# Altium schematic symbol library SPI.SchLib: 31 symbols
Pins are listed as number, name and electrical type; pins without a type are passive.

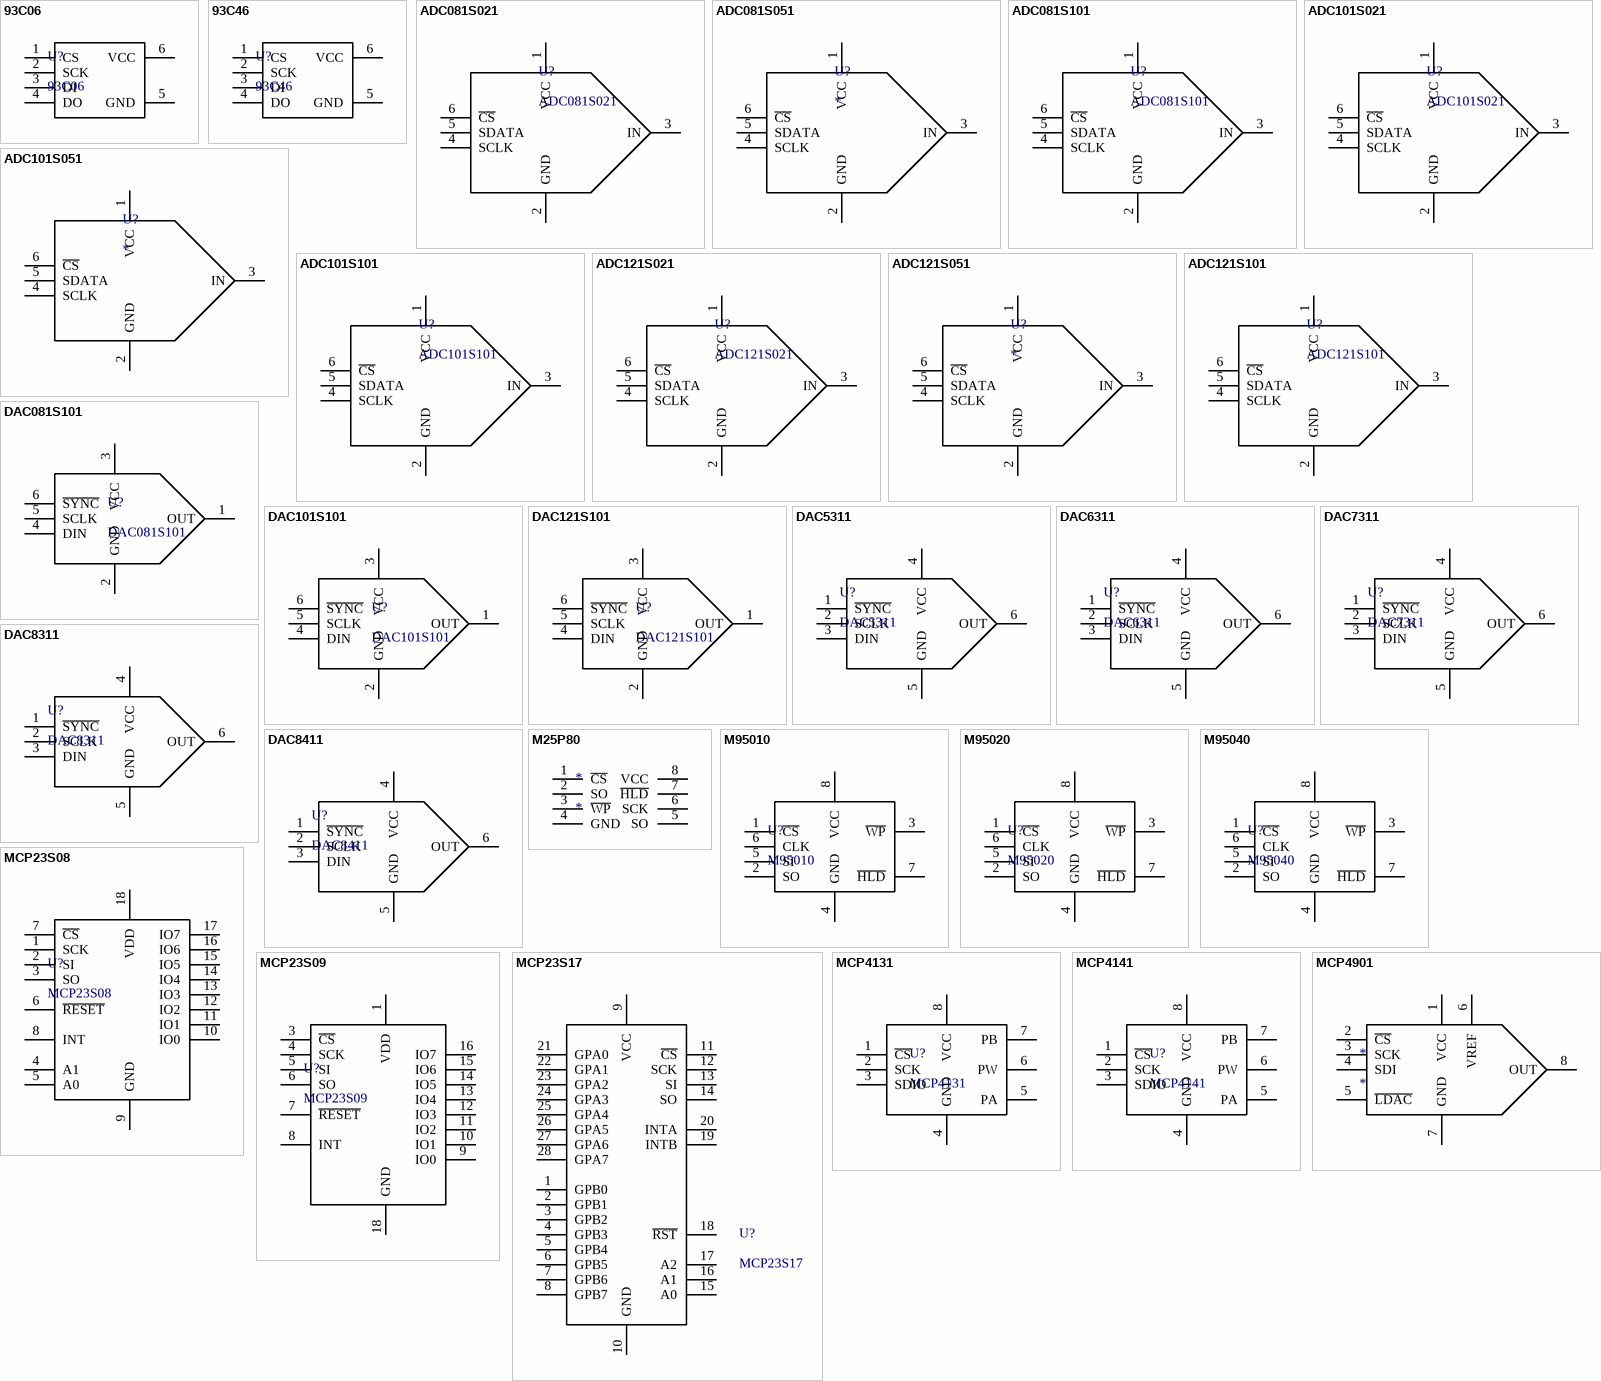
[diagram p0: symbols 93C06 to MCP4901]

## 93C06
designator U?
Supplier 1: Mouser; Supplier Part Number 1: 512-FM93C06M8
footprint SO8
pins: 1 CS, 2 SCK, 3 DI, 4 DO, 5 GND, 6 VCC

## 93C46
designator U?
Supplier 1: Mouser; Supplier Part Number 1: 579-93C46B/SN
footprint SO8
pins: 1 CS, 2 SCK, 3 DI, 4 DO, 5 GND, 6 VCC

## ADC081S021
designator U?
Supplier 1: Digi-Key; Supplier Part Number 1: ADC121S021CIMFTR-ND
footprint SOT23-6
pins: 1 VCC, 2 GND, 3 IN, 4 SCLK, 5 SDATA, 6 ~{CS}

## ADC081S051
designator U?
ADC081S051; Supplier 1: Digi-Key; Supplier Part Number 1: ADC121S051CIMFCT-ND
footprint SOT23-6
pins: 1 VCC, 2 GND, 3 IN, 4 SCLK, 5 SDATA, 6 ~{CS}

## ADC081S101
designator U?
Supplier 1: Digi-Key; Supplier Part Number 1: ADC121S101CIMFTR-ND
footprint SOT23-6
pins: 1 VCC, 2 GND, 3 IN, 4 SCLK, 5 SDATA, 6 ~{CS}

## ADC101S021
designator U?
Supplier 1: Digi-Key; Supplier Part Number 1: ADC101S021CIMFTR-ND
footprint SOT23-6
pins: 1 VCC, 2 GND, 3 IN, 4 SCLK, 5 SDATA, 6 ~{CS}

## ADC101S051
designator U?
ADC101S051; Supplier 1: Digi-Key; Supplier Part Number 1: ADC101S051CIMFTR-ND
footprint SOT23-6
pins: 1 VCC, 2 GND, 3 IN, 4 SCLK, 5 SDATA, 6 ~{CS}

## ADC101S101
designator U?
Supplier 1: Digi-Key; Supplier Part Number 1: ADC101S101CIMFTR-ND
footprint SOT23-6
pins: 1 VCC, 2 GND, 3 IN, 4 SCLK, 5 SDATA, 6 ~{CS}

## ADC121S021
designator U?
Supplier 1: Digi-Key; Supplier Part Number 1: ADC121S021CIMFTR-ND
footprint SOT23-6
pins: 1 VCC, 2 GND, 3 IN, 4 SCLK, 5 SDATA, 6 ~{CS}

## ADC121S051
designator U?
ADC121S051; Supplier 1: Digi-Key; Supplier Part Number 1: ADC121S051CIMFCT-ND
footprint SOT23-6
pins: 1 VCC, 2 GND, 3 IN, 4 SCLK, 5 SDATA, 6 ~{CS}

## ADC121S101
designator U?
Supplier 1: Digi-Key; Supplier Part Number 1: ADC121S101CIMFTR-ND
footprint SOT23-6
pins: 1 VCC, 2 GND, 3 IN, 4 SCLK, 5 SDATA, 6 ~{CS}

## DAC081S101
designator U?
Supplier 1: Digi-Key; Supplier Part Number 1: DAC081S101CIMKTR-ND
footprint SOT23-6
pins: 1 OUT, 2 GND, 3 VCC, 4 DIN, 5 SCLK, 6 ~{SYNC}

## DAC101S101
designator U?
Supplier 1: Digi-Key; Supplier Part Number 1: DAC101S101CIMKTR-ND
footprint SOT23-6
pins: 1 OUT, 2 GND, 3 VCC, 4 DIN, 5 SCLK, 6 ~{SYNC}

## DAC121S101
designator U?
Supplier 1: Digi-Key; Supplier Part Number 1: DAC121S101CIMKTR-ND
footprint SOT23-6
pins: 1 OUT, 2 GND, 3 VCC, 4 DIN, 5 SCLK, 6 ~{SYNC}

## DAC5311
designator U?
Supplier 1: Digi-Key; Supplier Part Number 1: 296-24180-2-ND
footprint SOT23-6
pins: 1 ~{SYNC}, 2 SCLK, 3 DIN, 4 VCC, 5 GND, 6 OUT

## DAC6311
designator U?
Supplier 1: Digi-Key; Supplier Part Number 1: 296-23716-2-ND
footprint SOT23-6
pins: 1 ~{SYNC}, 2 SCLK, 3 DIN, 4 VCC, 5 GND, 6 OUT

## DAC7311
designator U?
Supplier 1: Digi-Key; Supplier Part Number 1: 296-26043-1-ND
footprint SOT23-6
pins: 1 ~{SYNC}, 2 SCLK, 3 DIN, 4 VCC, 5 GND, 6 OUT

## DAC8311
designator U?
Supplier 1: Digi-Key; Supplier Part Number 1: 296-23760-2-ND
footprint SOT23-6
pins: 1 ~{SYNC}, 2 SCLK, 3 DIN, 4 VCC, 5 GND, 6 OUT

## DAC8411
designator U?
Supplier 1: Digi-Key; Supplier Part Number 1: DAC8411IDCKR-ND
footprint SOT23-6
pins: 1 ~{SYNC}, 2 SCLK, 3 DIN, 4 VCC, 5 GND, 6 OUT

## M25P80
designator *
footprint SO8
pins: 1 ~{CS}, 2 SO, 3 ~{WP}, 4 GND, 5 SO, 6 SCK, 7 ~{HLD}, 8 VCC

## M95010
designator U?
Supplier 1: Mouser; Supplier Part Number 1: 511-M95010-RMN6P
footprint SO8
pins: 1 ~{CS}, 2 SO, 3 ~{WP}, 4 GND, 5 SI, 6 CLK, 7 ~{HLD}, 8 VCC

## M95020
designator U?
Supplier 1: Mouser; Supplier Part Number 1: 511-M95020-RDW6TP
footprint SO8
pins: 1 ~{CS}, 2 SO, 3 ~{WP}, 4 GND, 5 SI, 6 CLK, 7 ~{HLD}, 8 VCC

## M95040
designator U?
Supplier 1: Digi-Key; Supplier Part Number 1: 497-8677-2-ND
footprint SO8
pins: 1 ~{CS}, 2 SO, 3 ~{WP}, 4 GND, 5 SI, 6 CLK, 7 ~{HLD}, 8 VCC

## MCP23S08
designator U?
Supplier 1: Digi-Key; Supplier Part Number 1: MCP23S08-E/SO-ND
footprint SO18W
pins: 1 SCK, 2 SI, 3 SO, 4 A1, 5 A0, 6 ~{RESET}, 7 ~{CS}, 8 INT, 9 GND, 10 IO0, 11 IO1, 12 IO2, 13 IO3, 14 IO4, 15 IO5, 16 IO6, 17 IO7, 18 VDD

## MCP23S09
designator U?
Supplier 1: Digi-Key; Supplier Part Number 1: MCP23S09-E/SO-ND
footprint SO18W
pins: 1 VDD, 3 ~{CS}, 4 SCK, 5 SI, 6 SO, 7 ~{RESET}, 8 INT, 9 IO0, 10 IO1, 11 IO2, 12 IO3, 13 IO4, 14 IO5, 15 IO6, 16 IO7, 18 GND

## MCP23S17
designator U?
Supplier 1: Digi-Key; Supplier Part Number 1: MCP23S17-E/SO-ND
footprint SO28W (Footprint not found)
pins: 1 GPB0, 2 GPB1, 3 GPB2, 4 GPB3, 5 GPB4, 6 GPB5, 7 GPB6, 8 GPB7, 9 VCC, 10 GND, 11 ~{CS}, 12 SCK, 13 SI, 14 SO, 15 A0, 16 A1, 17 A2, 18 ~{RST}, 19 INTB, 20 INTA, 21 GPA0, 22 GPA1, 23 GPA2, 24 GPA3, 25 GPA4, 26 GPA5, 27 GPA6, 28 GPA7

## MCP4131
designator U?
Supplier 1: Digi-Key; Supplier Part Number 1: MCP4131-103E/SN-ND
footprint SO8
pins: 1 ~{CS}, 2 SCK, 3 SDIO, 4 GND, 5 PA, 6 PW, 7 PB, 8 VCC

## MCP4141
designator U?
Supplier 1: Digi-Key; Supplier Part Number 1: MCP4141-103E/SN-ND
footprint SO8
pins: 1 ~{CS}, 2 SCK, 3 SDIO, 4 GND, 5 PA, 6 PW, 7 PB, 8 VCC

## MCP4901
designator *
footprint SO8
pins: 1 VCC, 2 ~{CS}, 3 SCK, 4 SDI, 5 ~{LDAC}, 6 VREF, 7 GND, 8 OUT

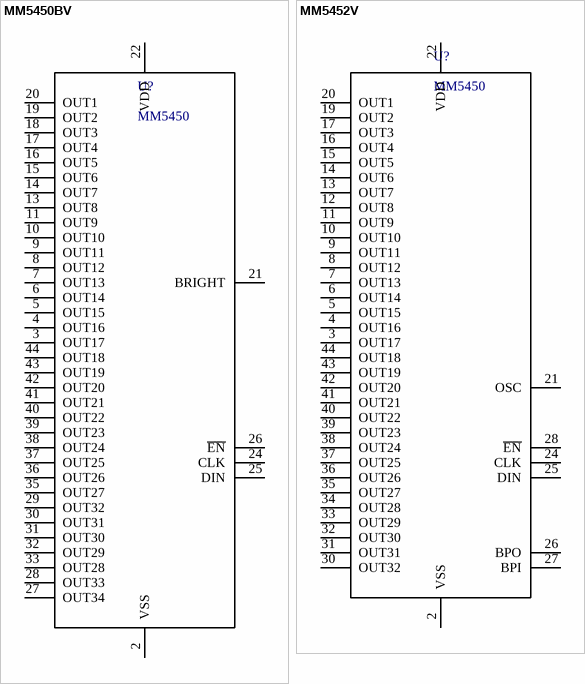
[diagram p1: symbols MM5450BV to MM5452V]

## MM5450BV
designator U?, comment MM5450
Supplier 1: Digi-Key; Supplier Part Number 1: 576-1342-1-ND
footprint PLCC44 (Footprint not found)
pins: 2 VSS, 3 OUT17, 4 OUT16, 5 OUT15, 6 OUT14, 7 OUT13, 8 OUT12, 9 OUT11, 10 OUT10, 11 OUT9, 13 OUT8, 14 OUT7, 15 OUT6, 16 OUT5, 17 OUT4, 18 OUT3, 19 OUT2, 20 OUT1, 21 BRIGHT, 22 VDD, 24 CLK, 25 DIN, 26 ~{EN}, 27 OUT34, 28 OUT33, 29 OUT32, 30 OUT31, 31 OUT30, 32 OUT29, 33 OUT28, 35 OUT27, 36 OUT26, 37 OUT25, 38 OUT24, 39 OUT23, 40 OUT22, 41 OUT21, 42 OUT20, 43 OUT19, 44 OUT18

## MM5452V
designator U?, comment MM5450
Supplier 1: Digi-Key; Supplier Part Number 1: MM5452V-ND
footprint PLCC44 (Footprint not found)
pins: 2 VSS, 3 OUT17, 4 OUT16, 5 OUT15, 6 OUT14, 7 OUT13, 8 OUT12, 9 OUT11, 10 OUT10, 11 OUT9, 12 OUT8, 13 OUT7, 14 OUT6, 15 OUT5, 16 OUT4, 17 OUT3, 19 OUT2, 20 OUT1, 21 OSC, 22 VDD, 24 CLK, 25 DIN, 26 BPO, 27 BPI, 28 ~{EN}, 30 OUT32, 31 OUT31, 32 OUT30, 33 OUT29, 34 OUT28, 35 OUT27, 36 OUT26, 37 OUT25, 38 OUT24, 39 OUT23, 40 OUT22, 41 OUT21, 42 OUT20, 43 OUT19, 44 OUT18